# EAGLE library part PJ85775 (library Public)
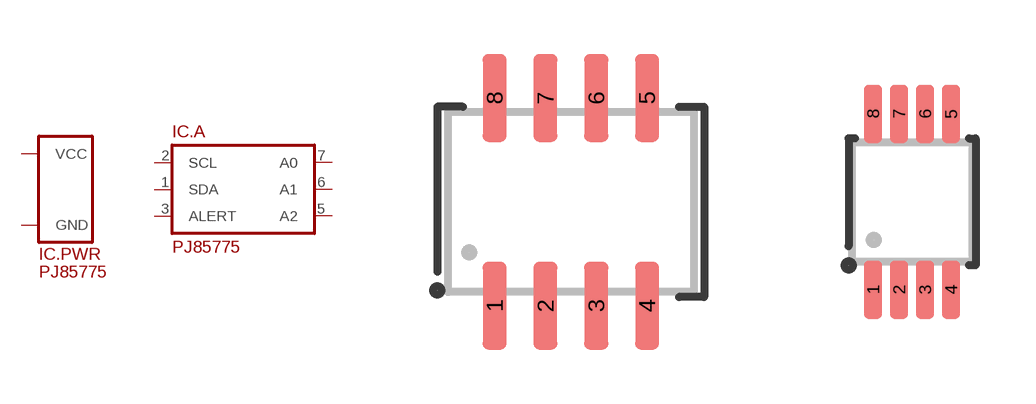
[diagram p188: symbol with the pads of SOP8; footprints SOP8, MSOP8]

Designator prefix IC; gates .PWR=SUPPLY_VCC/GND .A=PJ85775

## PJ85775(SOP8) (ID: PJ85775P_R2_00301)  [SOP8]
1  .A:SDA
2  .A:SCL
3  .A:ALERT
4  .PWR:GND
5  .A:A2
6  .A:A1
7  .A:A0
8  .PWR:VCC

## PJ85775(MSOP8) (ID: PJ85775M_R2_00301)  [MSOP8]
Pads as for SOP8

## Footprint SOP8 (pad centres in mm)
smd 0.6 x 2.2: 1 -1.905,-2.6; 2 -0.635,-2.6; 3 0.635,-2.6; 4 1.905,-2.6; 5 1.905,2.6; 6 0.635,2.6; 7 -0.635,2.6; 8 -1.905,2.6

## Footprint MSOP8 (pad centres in mm)
smd 0.45 x 1.45: 1 -0.975,-2.2; 2 -0.325,-2.2; 3 0.325,-2.2; 4 0.975,-2.2; 5 0.975,2.2; 6 0.325,2.2; 7 -0.325,2.2; 8 -0.975,2.2